# Altium schematic symbol library SCH - DIODES - COMCHIP CPDH3V3UP-HF.SCHLIB: 1 symbol
Pins are listed as number, name and electrical type; pins without a type are passive.

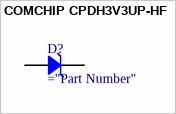
[diagram p0: symbol COMCHIP CPDH3V3UP-HF]

## COMCHIP CPDH3V3UP-HF
designator D?
Rectifier Diode
pins: 1 A, 2 K